# EAGLE library part TPD4E004DRYR (library mmWAVE)
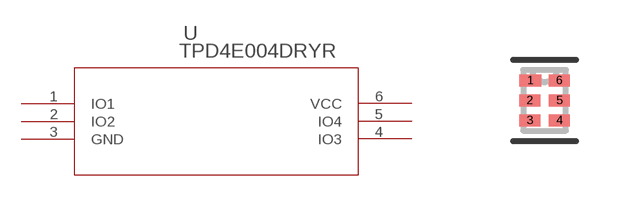
[diagram p7: symbol with the pads of DRY6; footprint DRY6]

Designator prefix U

## TPD4E004DRYR (COPYRIGHT: Copyright (C) 2025 Ultra Librarian. All rights reserved.; MANUFACTURER_PART_NUMBER: TPD4E004DRYR; MFR_NAME: Texas Instruments)  [DRY6]
1  IO1  pas
2  IO2  pas
3  GND  pwr
4  IO3  pas
5  IO4  pas
6  VCC  pwr

## Footprint DRY6 (pad centres in mm)
smd 0.55 x 0.3: 1 -0.355,0.5
smd 0.52 x 0.3: 2 -0.37,0; 3 -0.37,-0.5; 4 0.37,-0.5; 5 0.37,0; 6 0.37,0.5